# Altium schematic symbol library 470uF.SchLib: 2 symbols
Pins are listed as number, name and electrical type; pins without a type are passive.

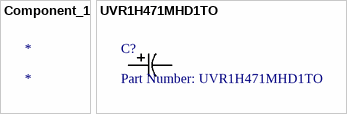
[diagram p0: symbols Component_1 to UVR1H471MHD1TO]

## Component_1
designator *

## UVR1H471MHD1TO
designator C?, comment Part Number: UVR1H471MHD1TO
No Description Available; Vendor: Nichicon; Built_By: EMA_Cory; Type: DEV; Manufacturer_Part_Number: UVR1H471MHD1TO; Copyright: Copyright (C) 2018 Accelerated Designs. All rights reserved; RefDes: RefDes; Value: Value
footprint CAP_UAQ_12P5X20
pins: 1, 2